# Altium integrated library SS34-E3_57T.IntLib: 1 symbol
Pins are listed as number, name and electrical type; pins without a type are passive.

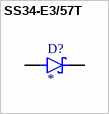
[diagram p0: symbol SS34-E3/57T]

## SS34-E3/57T
designator D?
Diode Schottky 40 V 3A Surface Mount DO-214AB (SMC); MF: Vishay General Semiconductor; MP: SS34-E3/57T; SnapEDA_Link: https://www.snapeda.com/parts/SS34-E3/57T/General+Semiconductor/view-part/?ref=snap; Availability: In Stock; Check_prices: https://www.snapeda.com/parts/SS34-E3/57T/General+Semiconductor/view-part/?ref=eda; Value: *; Package: None; Purchase-URL: https://pricing.snapeda.com/search/part/SS34-E3/57T/?ref=eda; Price: None
footprint DIOM7959X262N
pins: A, C